# EAGLE library part PIC24FJ64GC006_DIP (library systas0)
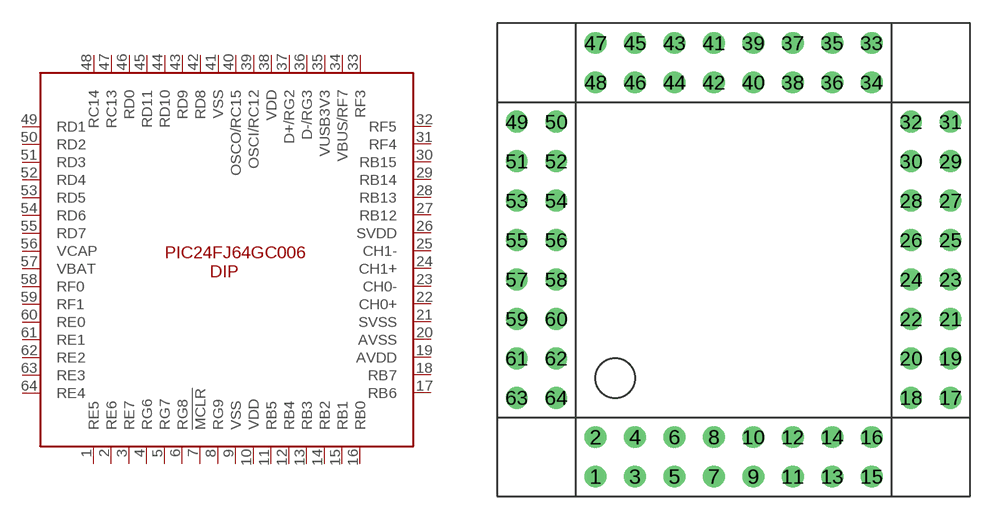
[diagram p4: symbol with the pads of PIC24FJ64GC006_DIP; footprint PIC24FJ64GC006_DIP]

Designator prefix -

## PIC24FJ64GC006_DIP  [PIC24FJ64GC006_DIP]
1  RE5
2  RE6
3  RE7
4  RG6
5  RG7
6  RG8
7  !MCLR
8  RG9
9  VSS
10  VDD
11  RB5
12  RB4
13  RB3
14  RB2
15  RB1
16  RB0
17  RB6
18  RB7
19  AVDD
20  AVSS
21  SVSS
22  CH0+
23  CH0-
24  CH1+
25  CH1-
26  SVDD
27  RB12
28  RB13
29  RB14
30  RB15
31  RF4
32  RF5
33  RF3
34  VBUS/RF7
35  VUSB3V3
36  D-/RG3
37  D+/RG2
38  VDD
39  OSCI/RC12
40  OSCO/RC15
41  VSS
42  RD8
43  RD9
44  RD10
45  RD11
46  RD0
47  RC13
48  RC14
49  RD1
50  RD2
51  RD3
52  RD4
53  RD5
54  RD6
55  RD7
56  VCAP
57  VBAT
58  RF0
59  RF1
60  RE0
61  RE1
62  RE2
63  RE3
64  RE4

## Footprint PIC24FJ64GC006_DIP (pad centres in mm)
drill 0.9: 1 -8.89,-13.97; 2 -8.89,-11.43; 3 -6.35,-13.97; 4 -6.35,-11.43; 5 -3.81,-13.97; 6 -3.81,-11.43; 7 -1.27,-13.97; 8 -1.27,-11.43; 9 1.27,-13.97; 10 1.27,-11.43; 11 3.81,-13.97; 12 3.81,-11.43; 13 6.35,-13.97; 14 6.35,-11.43; 15 8.89,-13.97; 16 8.89,-11.43; 17 13.97,-8.89; 18 11.43,-8.89; 19 13.97,-6.35; 20 11.43,-6.35; 21 13.97,-3.81; 22 11.43,-3.81; 23 13.97,-1.27; 24 11.43,-1.27; 25 13.97,1.27; 26 11.43,1.27; 27 13.97,3.81; 28 11.43,3.81; 29 13.97,6.35; 30 11.43,6.35; 31 13.97,8.89; 32 11.43,8.89; 33 8.89,13.97; 34 8.89,11.43; 35 6.35,13.97; 36 6.35,11.43; 37 3.81,13.97; 38 3.81,11.43; 39 1.27,13.97; 40 1.27,11.43; 41 -1.27,13.97; 42 -1.27,11.43; 43 -3.81,13.97; 44 -3.81,11.43; 45 -6.35,13.97; 46 -6.35,11.43; 47 -8.89,13.97; 48 -8.89,11.43; 49 -13.97,8.89; 50 -11.43,8.89; 51 -13.97,6.35; 52 -11.43,6.35; 53 -13.97,3.81; 54 -11.43,3.81; 55 -13.97,1.27; 56 -11.43,1.27; 57 -13.97,-1.27; 58 -11.43,-1.27; 59 -13.97,-3.81; 60 -11.43,-3.81; 61 -13.97,-6.35; 62 -11.43,-6.35; 63 -13.97,-8.89; 64 -11.43,-8.89